# EAGLE library part 1777642_PHOENIX (library WFR2020)
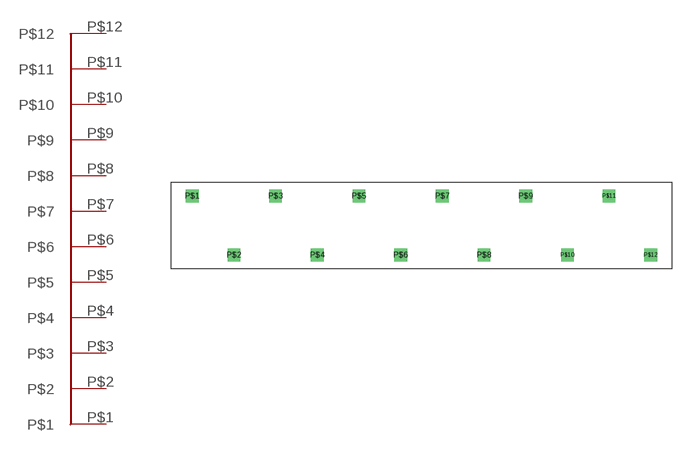
[diagram p4: symbol with the pads of 1777642_FOOTPRINT; footprint 1777642_FOOTPRINT]

Designator prefix -

## 1777642_PHOENIX  [1777642_FOOTPRINT]
P$1  P$1
P$2  P$2
P$3  P$3
P$4  P$4
P$5  P$5
P$6  P$6
P$7  P$7
P$8  P$8
P$9  P$9
P$10  P$10
P$11  P$11
P$12  P$12

## Footprint 1777642_FOOTPRINT (pad centres in mm)
drill 1.3 square: P$1 0,0; P$2 6.35,-9; P$3 12.7,0; P$4 19.05,-9; P$5 25.4,0; P$6 31.75,-9; P$7 38.1,0; P$8 44.45,-9; P$9 50.8,0; P$10 57.15,-9; P$11 63.5,0; P$12 69.85,-9